# Altium schematic symbol library Logic - Buffers, Drivers, Receivers, Transceivers.SchLib: 3 symbols
Pins are listed as number, name and electrical type; pins without a type are passive.

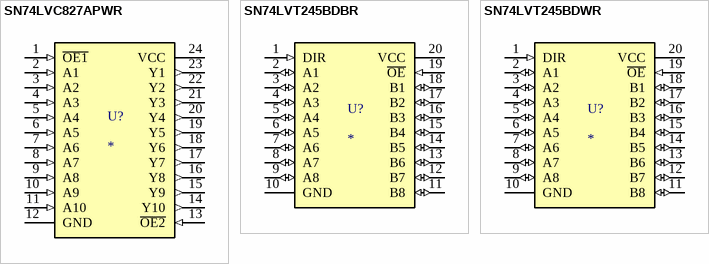
[diagram p0: symbols SN74LVC827APWR to SN74LVT245BDWR]

## SN74LVC827APWR
designator U?
IC BUF NON-INVERT 3.6V 24TSSOP; Supplier 1: Digi-Key; Supplier 2: Mouser; Supplier Part Number 1: 296-8548-1-ND; Supplier Part Number 2: 595-SN74LVC827APWR
footprint TI_24-TSSOP
pins: 1 ~{OE1} (in), 2 A1 (in), 3 A2 (in), 4 A3 (in), 5 A4 (in), 6 A5 (in), 7 A6 (in), 8 A7 (in), 9 A8 (in), 10 A9 (in), 11 A10 (in), 12 GND (power), 13 ~{OE2} (in), 14 Y10 (out), 15 Y9 (out), 16 Y8 (out), 17 Y7 (out), 18 Y6 (out), 19 Y5 (out), 20 Y4 (out), 21 Y3 (out), 22 Y2 (out), 23 Y1 (out), 24 VCC (power)

## SN74LVT245BDBR
designator U?
IC TXRX NON-INVERT 3.6V 20SSOP; Supplier 1: Digi-Key; Supplier 2: Farnell; Supplier 3: Mouser; Supplier 4: Arrow Electronics; Supplier Part Number 1: 296-8650-1-ND; Supplier Part Number 2: 3119704; Supplier Part Number 3: 595-SN74LVT245BDBR; Supplier Part Number 4: SN74LVT245BDBR
footprint TI_20-SSOP
pins: 1 DIR (in), 2 A1 (io), 3 A2 (io), 4 A3 (io), 5 A4 (io), 6 A5 (io), 7 A6 (io), 8 A7 (io), 9 A8 (io), 10 GND (power), 11 B8 (io), 12 B7 (io), 13 B6 (io), 14 B5 (io), 15 B4 (io), 16 B3 (io), 17 B2 (io), 18 B1 (io), 19 ~{OE} (in), 20 VCC (power)

## SN74LVT245BDWR
designator U?
IC TXRX NON-INVERT 3.6V 20SOIC; Supplier 1: Digi-Key; Supplier 2: Mouser; Supplier Part Number 1: 296-8651-1-ND; Supplier Part Number 2: 595-SN74LVT245BDWR
footprint TI_20-SOIC
pins: 1 DIR (in), 2 A1 (io), 3 A2 (io), 4 A3 (io), 5 A4 (io), 6 A5 (io), 7 A6 (io), 8 A7 (io), 9 A8 (io), 10 GND (power), 11 B8 (io), 12 B7 (io), 13 B6 (io), 14 B5 (io), 15 B4 (io), 16 B3 (io), 17 B2 (io), 18 B1 (io), 19 ~{OE} (in), 20 VCC (power)